# Altium footprint library JST GH Connectors.PcbLib: 28 footprints (part 2 of 2)
Each footprint in its own frame and in the unit in brackets; x right, y up, seen from the top. Pads: shape width x height; smd on the part's side, far side on the other; paste and mask are expansions set on the pad; w line width, h text height; cw(c..) or ccw(c..) is an arc to the next point about the centre after c.
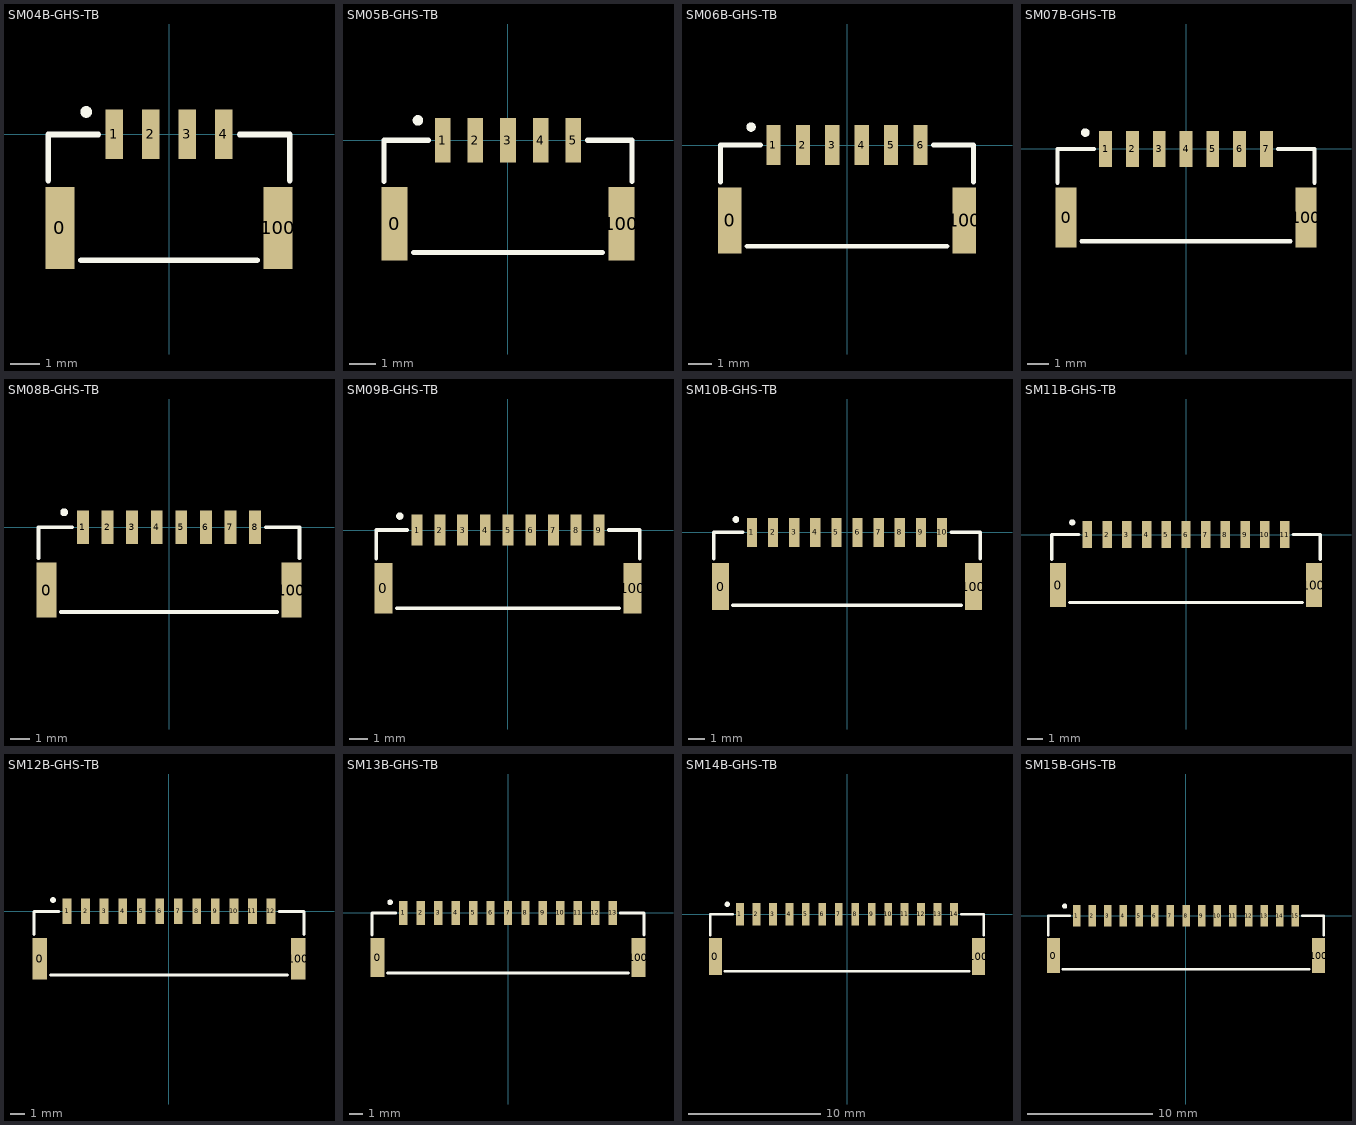
[diagram p1: the footprints below, top view; thin cyan lines are the x and y axes]

## SM04B-GHS-TB [mm]
pads (6):
  rect 1x2.8 smd: 0(-3.725,-3.2) 100(3.725,-3.2)
  rect 0.6x1.7 smd: 1(-1.875,0) 2(-0.625,0) 3(0.625,0) 4(1.875,0)
Top Overlay:
  circle w0.2: c-2.827,0.765 r0.1
  lines w0.2: -4.125,-1.575 -4.125,0 -2.418,0 ; -3.002,-4.3 3.002,-4.3 ; 2.418,0 4.125,0 4.125,-1.575
3D body "SM04B-GHS-TB.STEP": height 4.36, standoff 0.01, extent -4.125,-4.3 4.125,0.55

## SM05B-GHS-TB [mm]
pads (7):
  rect 1x2.8 smd: 0(-4.35,-3.2) 100(4.35,-3.2)
  rect 0.6x1.7 smd: 1(-2.5,0) 2(-1.25,0) 3(0,0) 4(1.25,0) 5(2.5,0)
Top Overlay:
  circle w0.2: c-3.452,0.765 r0.1
  lines w0.2: -4.75,-1.575 -4.75,0 -3.043,0 ; -3.627,-4.3 3.627,-4.3 ; 3.043,0 4.75,0 4.75,-1.575
3D body "SM05B-GHS-TB.STEP": height 4.36, standoff 0.01, extent -4.75,-4.3 4.75,0.55

## SM06B-GHS-TB [mm]
pads (8):
  rect 1x2.8 smd: 0(-4.975,-3.2) 100(4.975,-3.2)
  rect 0.6x1.7 smd: 1(-3.125,0) 2(-1.875,0) 3(-0.625,0) 4(0.625,0) 5(1.875,0) 6(3.125,0)
Top Overlay:
  circle w0.2: c-4.077,0.765 r0.1
  lines w0.2: -5.375,-1.575 -5.375,0 -3.668,0 ; -4.252,-4.3 4.252,-4.3 ; 3.668,0 5.375,0 5.375,-1.575
3D body "SM06B-GHS-TB.STEP": height 4.36, standoff 0.01, extent -5.375,-4.3 5.375,0.55

## SM07B-GHS-TB [mm]
pads (9):
  rect 1x2.8 smd: 0(-5.6,-3.2) 100(5.6,-3.2)
  rect 0.6x1.7 smd: 1(-3.75,0) 2(-2.5,0) 3(-1.25,0) 4(0,0) 5(1.25,0) 6(2.5,0) 7(3.75,0)
Top Overlay:
  circle w0.2: c-4.702,0.765 r0.1
  lines w0.2: -6,-1.575 -6,0 -4.293,0 ; -4.877,-4.3 4.877,-4.3 ; 4.293,0 6,0 6,-1.575
3D body "SM07B-GHS-TB.STEP": height 4.36, standoff 0.01, extent -6,-4.3 6,0.55

## SM08B-GHS-TB [mm]
pads (10):
  rect 1x2.8 smd: 0(-6.225,-3.2) 100(6.225,-3.2)
  rect 0.6x1.7 smd: 1(-4.375,0) 2(-3.125,0) 3(-1.875,0) 4(-0.625,0) 5(0.625,0) 6(1.875,0) 7(3.125,0) 8(4.375,0)
Top Overlay:
  circle w0.2: c-5.327,0.765 r0.1
  lines w0.2: -6.625,-1.575 -6.625,0 -4.918,0 ; -5.502,-4.3 5.502,-4.3 ; 4.918,0 6.625,0 6.625,-1.575
3D body "SM08B-GHS-TB.STEP": height 4.36, standoff 0.01, extent -6.625,-4.3 6.625,0.55

## SM09B-GHS-TB [mm]
pads (11):
  rect 1x2.8 smd: 0(-6.85,-3.2) 100(6.85,-3.2)
  rect 0.6x1.7 smd: 1(-5,0) 2(-3.75,0) 3(-2.5,0) 4(-1.25,0) 5(0,0) 6(1.25,0) 7(2.5,0) 8(3.75,0) 9(5,0)
Top Overlay:
  circle w0.2: c-5.952,0.765 r0.1
  lines w0.2: -7.25,-1.575 -7.25,0 -5.543,0 ; -6.127,-4.3 6.127,-4.3 ; 5.543,0 7.25,0 7.25,-1.575
3D body "SM09B-GHS-TB.STEP": height 4.36, standoff 0.01, extent -7.25,-4.3 7.25,0.55

## SM10B-GHS-TB [mm]
pads (12):
  rect 1x2.8 smd: 0(-7.475,-3.2) 100(7.475,-3.2)
  rect 0.6x1.7 smd: 1(-5.625,0) 2(-4.375,0) 3(-3.125,0) 4(-1.875,0) 5(-0.625,0) 6(0.625,0) 7(1.875,0) 8(3.125,0) 9(4.375,0) 10(5.625,0)
Top Overlay:
  circle w0.2: c-6.577,0.765 r0.1
  lines w0.2: -7.875,-1.575 -7.875,0 -6.168,0 ; -6.752,-4.3 6.752,-4.3 ; 6.168,0 7.875,0 7.875,-1.575
3D body "SM10B-GHS-TB.STEP": height 4.36, standoff 0.01, extent -7.875,-4.3 7.875,0.55

## SM11B-GHS-TB [mm]
pads (13):
  rect 1x2.8 smd: 0(-8.1,-3.2) 100(8.1,-3.2)
  rect 0.6x1.7 smd: 1(-6.25,0) 2(-5,0) 3(-3.75,0) 4(-2.5,0) 5(-1.25,0) 6(0,0) 7(1.25,0) 8(2.5,0) 9(3.75,0) 10(5,0) 11(6.25,0)
Top Overlay:
  circle w0.2: c-7.202,0.765 r0.1
  lines w0.2: -8.5,-1.575 -8.5,0 -6.793,0 ; -7.377,-4.3 7.377,-4.3 ; 6.793,0 8.5,0 8.5,-1.575
3D body "SM11B-GHS-TB.STEP": height 4.36, standoff 0.01, extent -8.5,-4.3 8.5,0.55

## SM12B-GHS-TB [mm]
pads (14):
  rect 1x2.8 smd: 0(-8.725,-3.2) 100(8.725,-3.2)
  rect 0.6x1.7 smd: 1(-6.875,0) 2(-5.625,0) 3(-4.375,0) 4(-3.125,0) 5(-1.875,0) 6(-0.625,0) 7(0.625,0) 8(1.875,0) 9(3.125,0) 10(4.375,0) 11(5.625,0) 12(6.875,0)
Top Overlay:
  circle w0.2: c-7.827,0.765 r0.1
  lines w0.2: -9.125,-1.575 -9.125,0 -7.418,0 ; -8.002,-4.3 8.002,-4.3 ; 7.418,0 9.125,0 9.125,-1.575
3D body "SM12B-GHS-TB.STEP": height 4.36, standoff 0.01, extent -9.125,-4.3 9.125,0.55

## SM13B-GHS-TB [mm]
pads (15):
  rect 1x2.8 smd: 0(-9.35,-3.2) 100(9.35,-3.2)
  rect 0.6x1.7 smd: 1(-7.5,0) 2(-6.25,0) 3(-5,0) 4(-3.75,0) 5(-2.5,0) 6(-1.25,0) 7(0,0) 8(1.25,0) 9(2.5,0) 10(3.75,0) 11(5,0) 12(6.25,0) 13(7.5,0)
Top Overlay:
  circle w0.2: c-8.452,0.765 r0.1
  lines w0.2: -9.75,-1.575 -9.75,0 -8.043,0 ; -8.627,-4.3 8.627,-4.3 ; 8.043,0 9.75,0 9.75,-1.575
3D body "SM13B-GHS-TB.STEP": height 4.36, standoff 0.01, extent -9.75,-4.3 9.75,0.55

## SM14B-GHS-TB [mm]
pads (16):
  rect 1x2.8 smd: 0(-9.975,-3.2) 100(9.975,-3.2)
  rect 0.6x1.7 smd: 1(-8.125,0) 2(-6.875,0) 3(-5.625,0) 4(-4.375,0) 5(-3.125,0) 6(-1.875,0) 7(-0.625,0) 8(0.625,0) 9(1.875,0) 10(3.125,0) 11(4.375,0) 12(5.625,0) 13(6.875,0) 14(8.125,0)
Top Overlay:
  circle w0.2: c-9.077,0.765 r0.1
  lines w0.2: -10.375,-1.575 -10.375,0 -8.668,0 ; -9.252,-4.3 9.252,-4.3 ; 8.668,0 10.375,0 10.375,-1.575
3D body "SM14B-GHS-TB.STEP": height 4.36, standoff 0.01, extent -10.375,-4.3 10.375,0.55

## SM15B-GHS-TB [mm]
pads (17):
  rect 1x2.8 smd: 0(-10.6,-3.2) 100(10.6,-3.2)
  rect 0.6x1.7 smd: 1(-8.75,0) 2(-7.5,0) 3(-6.25,0) 4(-5,0) 5(-3.75,0) 6(-2.5,0) 7(-1.25,0) 8(0,0) 9(1.25,0) 10(2.5,0) 11(3.75,0) 12(5,0) 13(6.25,0) 14(7.5,0) 15(8.75,0)
Top Overlay:
  circle w0.2: c-9.702,0.765 r0.1
  lines w0.2: -11,-1.575 -11,0 -9.293,0 ; -9.877,-4.3 9.877,-4.3 ; 9.293,0 11,0 11,-1.575
3D body "SM15B-GHS-TB.STEP": height 4.36, standoff 0.01, extent -11,-4.3 11,0.55